# Altium footprint library ADF4351BCPZ-LFCSP-32.PcbLib: 1 footprints
Each footprint in its own frame and in the unit in brackets; x right, y up, seen from the top. Pads: shape width x height; smd on the part's side, far side on the other; paste and mask are expansions set on the pad; w line width, h text height; cw(c..) or ccw(c..) is an arc to the next point about the centre after c.
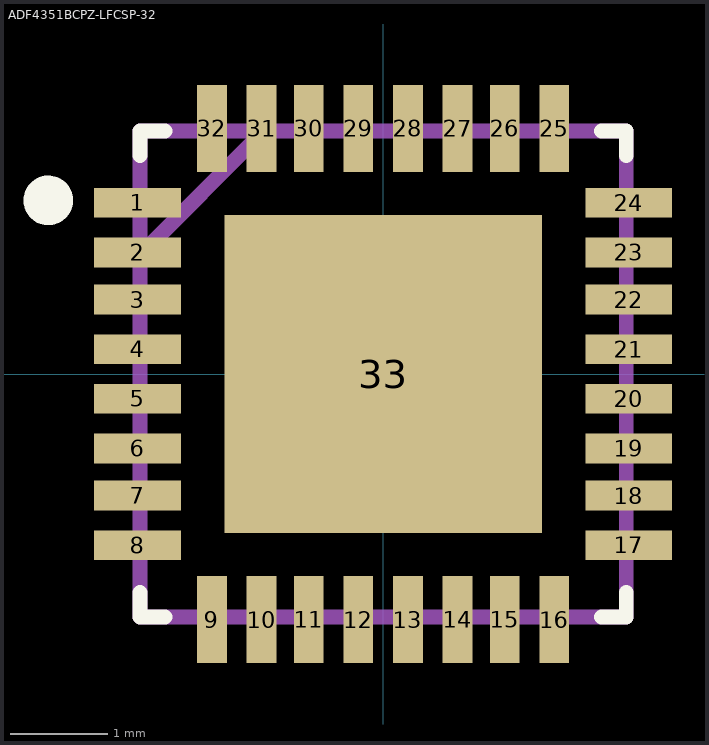
[diagram p0: the footprint, top view; thin cyan lines are the x and y axes]

## ADF4351BCPZ-LFCSP-32 [mil]
pads (33):
  rect 35x12 smd: 1(-99,69) 2(-99,49) 3(-99,30) 4(-99,10) 5(-99,-10) 6(-99,-30) 7(-99,-49) 8(-99,-69) 17(99,-69) 18(99,-49) 19(99,-30) 20(99,-10) 21(99,10) 22(99,30) 23(99,49) 24(99,69)
  rect 12x35 smd: 9(-69,-99) 10(-49,-99) 11(-30,-99) 12(-10,-99) 13(10,-99) 14(30,-99) 15(49,-99) 16(69,-99) 25(69,99) 26(49,99) 27(30,99) 28(10,99) 29(-10,99) 30(-30,99) 31(-49,99) 32(-69,99)
  rect 128x128 smd: 33(0,0)
Top Overlay:
  circle w10: c-135,70 r5
  lines w6: -98,-88 -98,-98 -88,-98 ; -98,88 -98,98 -88,98 ; 88,-98 98,-98 98,-88 ; 88,98 98,98 98,88
Mechanical 13:
  lines w6: -98,-75 -98,-63 ; -98,-55 -98,-43 ; -98,-36 -98,-24 ; -98,-16 -98,-4 ; -98,4 -98,16 ; -98,24 -98,36 ; -98,43 -98,55 ; -98,48 -48,98 ; -98,63 -98,75 ; -75,-98 -63,-98 ; -75,98 -63,98 ; -55,-98 -43,-98 ; -55,98 -43,98 ; -36,-98 -24,-98 ; -36,98 -24,98 ; -16,-98 -4,-98 ; -16,98 -4,98 ; 4,-98 16,-98 ; 4,98 16,98 ; 24,-98 36,-98 ; 24,98 36,98 ; 43,-98 55,-98 ; 43,98 55,98 ; 63,-98 75,-98 ; 63,98 75,98 ; 98,-75 98,-63 ; 98,-55 98,-43 ; 98,-36 98,-24 ; 98,-16 98,-4 ; 98,4 98,16 ; 98,24 98,36 ; 98,43 98,55 ; 98,63 98,75 ; -98,-98 98,-98 98,98 -98,98 -98,-98
3D body "CP-32-7_ADI.step": height 31.61, standoff 0, extent -98.42,-98.43 98.43,98.43